# Altium schematic symbol library Ultra_Sonic_Range.SchLib: 1 symbol
Pins are listed as number, name and electrical type; pins without a type are passive.

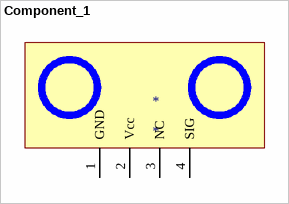
[diagram p0: symbol Component_1]

## Component_1
designator *
pins: 1 GND, 2 Vcc, 3 NC, 4 SIG